# EAGLE library part LTC6253X (library ltc625x)
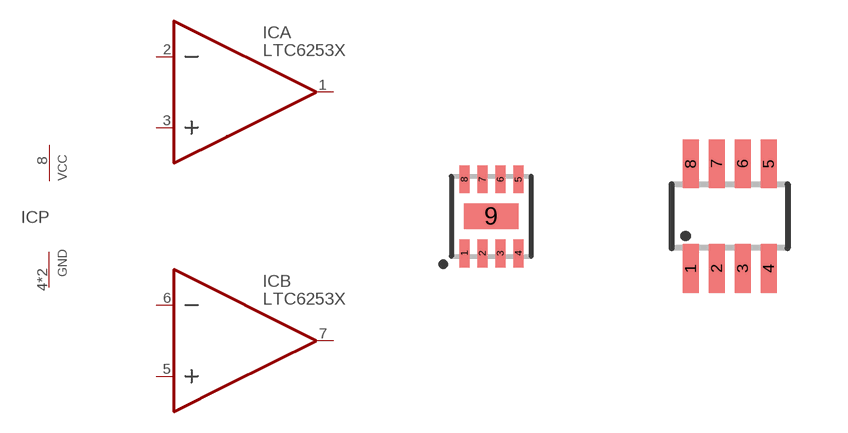
[diagram p3: symbol with the pads of DFN8; footprints DFN8, TSOT23-8]

Designator prefix IC; gates A=OPAMP B=OPAMP P=POWER

## LTC6253XDC  [DFN8]
1  A:OUT  out
2  A:-IN  in
3  A:+IN  in
4  P:V-  pwr
5  B:+IN  in
6  B:-IN  in
7  B:OUT  out
8  P:V+  pwr
9  P:V-  pwr

## LTC6253XTS8  [TSOT23-8]
1  A:OUT  out
2  A:-IN  in
3  A:+IN  in
4  P:V-  pwr
5  B:+IN  in
6  B:-IN  in
7  B:OUT  out
8  P:V+  pwr

## LTC6253XMS8  [MSOP8]
Pads as for TSOT23-8

## Footprint DFN8 (pad centres in mm)
smd 0.25 x 0.7: 1 -0.675,-0.925; 2 -0.225,-0.925; 3 0.225,-0.925; 4 0.675,-0.925; 5 0.675,0.925; 6 0.225,0.925; 7 -0.225,0.925; 8 -0.675,0.925
smd 1.37 x 0.64: 9 0,0

## Footprint TSOT23-8 (pad centres in mm)
S8 Package 8-Lead Plastic TSOT-23
smd 0.4 x 1.22: 1 -0.975,-1.31; 2 -0.325,-1.31; 3 0.325,-1.31; 4 0.975,-1.31; 5 0.975,1.31; 6 0.325,1.31; 7 -0.325,1.31; 8 -0.975,1.31

## Footprint MSOP8 (pad centres in mm)
smd 0.42 x 0.9: 1 -0.975,-2.15; 2 -0.325,-2.15; 3 0.325,-2.15; 4 0.975,-2.15; 5 0.975,2.15; 6 0.325,2.15; 7 -0.325,2.15; 8 -0.975,2.15